# Altium integrated library TI Interface ESD EMI Protection.IntLib: 82 symbols (part 1 of 3)
Pins are listed as number, name and electrical type; pins without a type are passive.

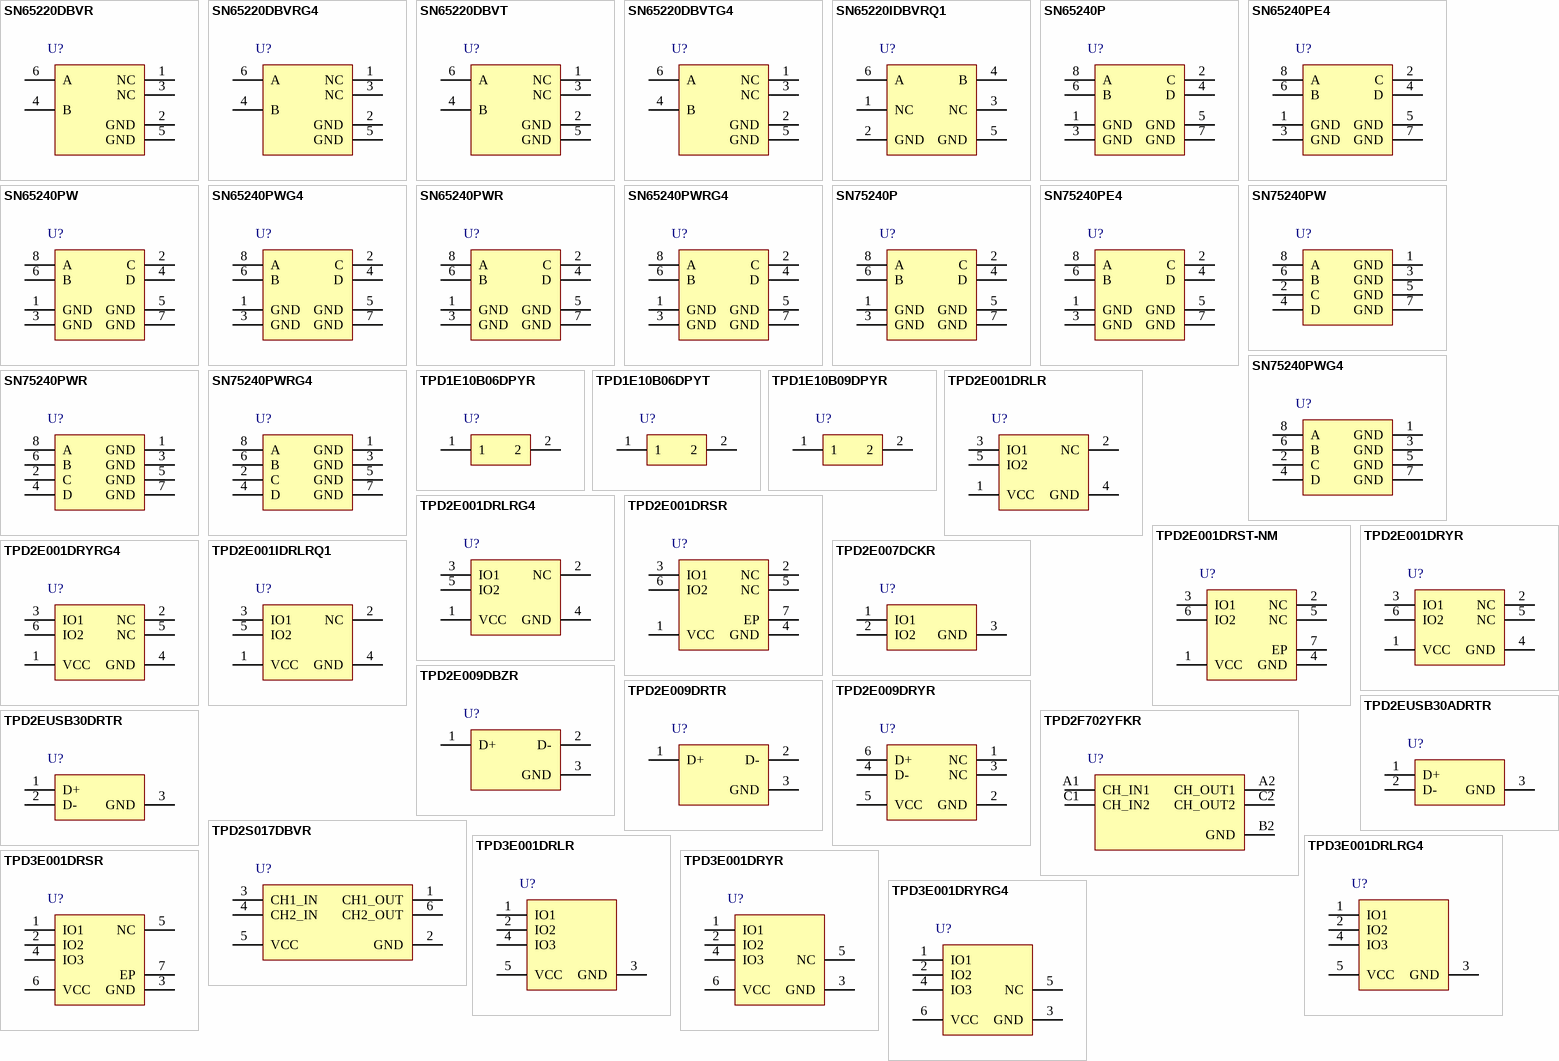
[diagram p0: symbols SN65220DBVR to TPD3E001DRYRG4]

## SN65220DBVR
designator U?
Single Universal Serial Bus Port Transient Suppressor, 2 Channels, -40 to +85 degC, 6-pin SOT-23 (DBV), Green (RoHS & no Sb/Br); Manufacturer: Texas Instruments; PartNumber: SN65220DBVR; Breakdown Voltage(Min)(V): 7; IO Capacitance(Typ)(pF): 35; IO Leakage Current(nA): 1000; SubFamily: ESD Solution; USB Full Speed: TRUE; DatasheetVersion: SLLS266G; PackageVersion: revK, Mar-2006; PackageReference: DBV6; PackageDescription: 6-Pin Plastic Small-Outline Package, 2.9 x 1.6 mm Body, 0.95 mm Pitch, 2.8 mm Lead Span; Supplier 1: Digi-Key; Supplier Part Number 1: 296-9694-2-ND; Supplier 2: Digi-Key; Supplier Part Number 2: 296-9694-1-ND; Supplier 3: Digi-Key; Supplier Part Number 3: 296-9694-6-ND; Supplier 4: Farnell; Supplier Part Number 4: 1470328RL; Supplier 5: Farnell; Supplier Part Number 5: 1470328; Supplier 6: Newark; Supplier Part Number 6: 75C7863; Supplier 7: Mouser; Supplier Part Number 7: 595-SN65220DBVR; Eco-Plan: Green (RoHS & no Sb/Br); Mounting Technology: Surface Mount; Code_JEDEC: MO-178-AB*; ComponentLink1Description: Datasheet; ComponentLink1URL: http://www.ti.com/general/docs/lit/getliterature.tsp?genericPartNumber=SN65220&fileType=pdf; ComponentLink2Description: URL Link1; ComponentLink2URL: SamplesURL:http://www.ti.com/product/sn65220#samples
footprint DBV6_N (SOT23, 6-Leads, Body 2.9x1.6mm, Pitch 0.95mm, Lead Span 2.8mm, IPC Medium Density)
footprint DBV6_L (SOT23, 6-Leads, Body 2.9x1.6mm, Pitch 0.95mm, Lead Span 2.8mm, IPC High Density)
footprint DBV6_M (SOT23, 6-Leads, Body 2.9x1.6mm, Pitch 0.95mm, Lead Span 2.8mm, IPC Low Density)
pins: 1 NC, 2 GND (power), 3 NC, 4 B, 5 GND (power), 6 A

## SN65220DBVRG4
designator U?
Single Universal Serial Bus Port Transient Suppressor, 2 Channels, -40 to +85 degC, 6-pin SOT-23 (DBV), Green (RoHS & no Sb/Br); Manufacturer: Texas Instruments; PartNumber: SN65220DBVRG4; Breakdown Voltage(Min)(V): 7; IO Capacitance(Typ)(pF): 35; IO Leakage Current(nA): 1000; SubFamily: ESD Solution; USB Full Speed: TRUE; DatasheetVersion: SLLS266G; PackageVersion: revK, Mar-2006; PackageReference: DBV6; PackageDescription: 6-Pin Plastic Small-Outline Package, 2.9 x 1.6 mm Body, 0.95 mm Pitch, 2.8 mm Lead Span; Supplier 1: Digi-Key; Supplier Part Number 1: SN65220DBVRG4-ND; Supplier 2: Newark; Supplier Part Number 2: 24K4846; Supplier 3: Mouser; Supplier Part Number 3: 595-SN65220DBVRG4; Eco-Plan: Green (RoHS & no Sb/Br); Mounting Technology: Surface Mount; Code_JEDEC: MO-178-AB*; ComponentLink1Description: Datasheet; ComponentLink1URL: http://www.ti.com/general/docs/lit/getliterature.tsp?genericPartNumber=SN65220&fileType=pdf; ComponentLink2Description: URL Link1; ComponentLink2URL: SamplesURL:http://www.ti.com/product/sn65220#samples
footprint DBV6_N (SOT23, 6-Leads, Body 2.9x1.6mm, Pitch 0.95mm, Lead Span 2.8mm, IPC Medium Density)
footprint DBV6_L (SOT23, 6-Leads, Body 2.9x1.6mm, Pitch 0.95mm, Lead Span 2.8mm, IPC High Density)
footprint DBV6_M (SOT23, 6-Leads, Body 2.9x1.6mm, Pitch 0.95mm, Lead Span 2.8mm, IPC Low Density)
pins: 1 NC, 2 GND (power), 3 NC, 4 B, 5 GND (power), 6 A

## SN65220DBVT
designator U?
Single Universal Serial Bus Port Transient Suppressor, 2 Channels, -40 to +85 degC, 6-pin SOT-23 (DBV), Green (RoHS & no Sb/Br); Manufacturer: Texas Instruments; PartNumber: SN65220DBVT; Breakdown Voltage(Min)(V): 7; IO Capacitance(Typ)(pF): 35; IO Leakage Current(nA): 1000; SubFamily: ESD Solution; USB Full Speed: TRUE; DatasheetVersion: SLLS266G; PackageVersion: revK, Mar-2006; PackageReference: DBV6; PackageDescription: 6-Pin Plastic Small-Outline Package, 2.9 x 1.6 mm Body, 0.95 mm Pitch, 2.8 mm Lead Span; Supplier 1: Digi-Key; Supplier Part Number 1: 296-2341-2-ND; Supplier 2: Digi-Key; Supplier Part Number 2: 296-2341-1-ND; Supplier 3: Digi-Key; Supplier Part Number 3: 296-2341-6-ND; Supplier 4: Farnell; Supplier Part Number 4: 8451990; Supplier 5: Farnell; Supplier Part Number 5: 8451990RL; Supplier 6: Newark; Supplier Part Number 6: 35K0746; Supplier 7: Mouser; Supplier Part Number 7: 595-SN65220DBVT; Eco-Plan: Green (RoHS & no Sb/Br); Mounting Technology: Surface Mount; Code_JEDEC: MO-178-AB*; ComponentLink1Description: Datasheet; ComponentLink1URL: http://www.ti.com/general/docs/lit/getliterature.tsp?genericPartNumber=SN65220&fileType=pdf; ComponentLink2Description: URL Link1; ComponentLink2URL: SamplesURL:http://www.ti.com/product/sn65220#samples
footprint DBV6_N (SOT23, 6-Leads, Body 2.9x1.6mm, Pitch 0.95mm, Lead Span 2.8mm, IPC Medium Density)
footprint DBV6_L (SOT23, 6-Leads, Body 2.9x1.6mm, Pitch 0.95mm, Lead Span 2.8mm, IPC High Density)
footprint DBV6_M (SOT23, 6-Leads, Body 2.9x1.6mm, Pitch 0.95mm, Lead Span 2.8mm, IPC Low Density)
pins: 1 NC, 2 GND (power), 3 NC, 4 B, 5 GND (power), 6 A

## SN65220DBVTG4
designator U?
Single Universal Serial Bus Port Transient Suppressor, 2 Channels, -40 to +85 degC, 6-pin SOT-23 (DBV), Green (RoHS & no Sb/Br); Manufacturer: Texas Instruments; PartNumber: SN65220DBVTG4; Breakdown Voltage(Min)(V): 7; IO Capacitance(Typ)(pF): 35; IO Leakage Current(nA): 1000; Number of Channels: 2; SubFamily: ESD Solution; USB Full Speed: TRUE; DatasheetVersion: SLLS266G; PackageVersion: revK, Mar-2006; PackageReference: DBV6; PackageDescription: 6-Pin Plastic Small-Outline Package, 2.9 x 1.6 mm Body, 0.95 mm Pitch, 2.8 mm Lead Span; Supplier 1: Digi-Key; Supplier Part Number 1: SN65220DBVTG4-ND; Supplier 2: Newark; Supplier Part Number 2: 24K4847; Supplier 3: Mouser; Supplier Part Number 3: 595-SN65220DBVTG4; Eco-Plan: Green (RoHS & no Sb/Br); Mounting Technology: Surface Mount; Code_JEDEC: MO-178-AB*; ComponentLink1Description: Datasheet; ComponentLink1URL: http://www.ti.com/general/docs/lit/getliterature.tsp?genericPartNumber=SN65220&fileType=pdf; ComponentLink2Description: URL Link1; ComponentLink2URL: SamplesURL:http://www.ti.com/product/sn65220#samples
footprint DBV6_N (SOT23, 6-Leads, Body 2.9x1.6mm, Pitch 0.95mm, Lead Span 2.8mm, IPC Medium Density)
footprint DBV6_L (SOT23, 6-Leads, Body 2.9x1.6mm, Pitch 0.95mm, Lead Span 2.8mm, IPC High Density)
footprint DBV6_M (SOT23, 6-Leads, Body 2.9x1.6mm, Pitch 0.95mm, Lead Span 2.8mm, IPC Low Density)
pins: 1 NC, 2 GND (power), 3 NC, 4 B, 5 GND (power), 6 A

## SN65220IDBVRQ1
designator U?
Automotive Catalog Single USB Port Transient Suppressor, 2 Channels, -40 to +85 degC, 6-pin SOT-23 (DBV), Green (RoHS & no Sb/Br); Manufacturer: Texas Instruments; PartNumber: SN65220IDBVRQ1; Breakdown Voltage(Min)(V): 7; IO Capacitance(Typ)(pF): 35; SubFamily: ESD Solution; USB Full Speed: TRUE; DatasheetVersion: SGLS297A; PackageVersion: revK, Mar-2006; PackageReference: DBV6; PackageDescription: 6-Pin Plastic Small-Outline Package, 2.9 x 1.6 mm Body, 0.95 mm Pitch, 2.8 mm Lead Span; Supplier 1: Digi-Key; Supplier Part Number 1: SN65220IDBVRQ1-ND; Supplier 2: Newark; Supplier Part Number 2: 24K4848; Supplier 3: Mouser; Supplier Part Number 3: 595-SN65220IDBVRQ1; Eco-Plan: Green (RoHS & no Sb/Br); Mounting Technology: Surface Mount; Code_JEDEC: MO-178-AB*; ComponentLink1Description: Datasheet; ComponentLink1URL: http://www.ti.com/general/docs/lit/getliterature.tsp?genericPartNumber=SN65220-Q1&fileType=pdf; ComponentLink2Description: URL Link1; ComponentLink2URL: SamplesURL:http://www.ti.com/product/sn65220-q1#samples
footprint DBV6_N (SOT23, 6-Leads, Body 2.9x1.6mm, Pitch 0.95mm, Lead Span 2.8mm, IPC Medium Density)
footprint DBV6_L (SOT23, 6-Leads, Body 2.9x1.6mm, Pitch 0.95mm, Lead Span 2.8mm, IPC High Density)
footprint DBV6_M (SOT23, 6-Leads, Body 2.9x1.6mm, Pitch 0.95mm, Lead Span 2.8mm, IPC Low Density)
pins: 1 NC, 2 GND (power), 3 NC, 4 B, 5 GND (power), 6 A

## SN65240P
designator U?
Dual Universal Serial Bus Port Transient Suppressor, 4 Channels, -40 to +85 degC, 8-pin PDIP (P), Pb-Free (RoHS); Manufacturer: Texas Instruments; PartNumber: SN65240P; Breakdown Voltage(Min)(V): 7; IO Capacitance(Typ)(pF): 35; IO Leakage Current(nA): 1000; SubFamily: ESD Solution; USB Full Speed: TRUE; DatasheetVersion: SLLS266G; PackageVersion: revE, Apr-2010; PackageReference: P8; PackageDescription: 8-Pin Plastic Dual-In-Line Package, Row Spacing 7.62 mm, Pitch 2.54 mm; Supplier 1: Digi-Key; Supplier Part Number 1: 296-9695-5-ND; Supplier 2: Farnell; Supplier Part Number 2: 8452008; Supplier 3: Newark; Supplier Part Number 3: 75C7865; Supplier 4: Mouser; Supplier Part Number 4: 595-SN65240P; Eco-Plan: Pb-Free (RoHS); Mounting Technology: Through Hole; Code_JEDEC: MS-001-BA; ComponentLink1Description: Datasheet; ComponentLink1URL: http://www.ti.com/general/docs/lit/getliterature.tsp?genericPartNumber=SN65240&fileType=pdf; ComponentLink2Description: URL Link1; ComponentLink2URL: SamplesURL:http://www.ti.com/product/sn65240#samples
footprint P8 (DIP, 8-Leads, Row Spacing 7.62mm, Pitch 2.54mm, Body 9.6x6.4mm)
pins: 1 GND (power), 2 C, 3 GND (power), 4 D, 5 GND (power), 6 B, 7 GND (power), 8 A

## SN65240PE4
designator U?
Dual Universal Serial Bus Port Transient Suppressor, 4 Channels, -40 to +85 degC, 8-pin PDIP (P), Pb-Free (RoHS); Manufacturer: Texas Instruments; PartNumber: SN65240PE4; Breakdown Voltage(Min)(V): 7; IO Capacitance(Typ)(pF): 35; IO Leakage Current(nA): 1000; SubFamily: ESD Solution; USB Full Speed: TRUE; DatasheetVersion: SLLS266G; PackageVersion: revE, Apr-2010; PackageReference: P8; PackageDescription: 8-Pin Plastic Dual-In-Line Package, Row Spacing 7.62 mm, Pitch 2.54 mm; Supplier 1: Digi-Key; Supplier Part Number 1: SN65240PE4-ND; Supplier 2: Newark; Supplier Part Number 2: 24K4849; Supplier 3: Mouser; Supplier Part Number 3: 595-SN65240PE4; Eco-Plan: Pb-Free (RoHS); Mounting Technology: Through Hole; Code_JEDEC: MS-001-BA; ComponentLink1Description: Datasheet; ComponentLink1URL: http://www.ti.com/general/docs/lit/getliterature.tsp?genericPartNumber=SN65240&fileType=pdf; ComponentLink2Description: URL Link1; ComponentLink2URL: SamplesURL:http://www.ti.com/product/sn65240#samples
footprint P8 (DIP, 8-Leads, Row Spacing 7.62mm, Pitch 2.54mm, Body 9.6x6.4mm)
pins: 1 GND (power), 2 C, 3 GND (power), 4 D, 5 GND (power), 6 B, 7 GND (power), 8 A

## SN65240PW
designator U?
Universal Serial Bus Port Transient Suppressor, 4 Channels, -40 to +85 degC, 8-pin TSSOP (PW), Green (RoHS & no Sb/Br); Manufacturer: Texas Instruments; PartNumber: SN65240PW; Breakdown Voltage(Min)(V): 7; Eco-Plan: Pb-Free (RoHS); IO Capacitance(Typ)(pF): 35; IO Leakage Current(nA): 1000; SubFamily: ESD Solution; USB Full Speed: TRUE; DatasheetVersion: SLLS266G; PackageVersion: revG, Feb-2011; PackageReference: PW8; PackageDescription: 8-Pin Plastic Thin Small Outline Package 3 x 4.4 mm Body ,0.65 mm Pitch; Supplier 1: Digi-Key; Supplier Part Number 1: 296-9696-5-ND; Supplier 2: Newark; Supplier Part Number 2: 74K3951; Supplier 3: Mouser; Supplier Part Number 3: 595-SN65240PW; Mounting Technology: Surface Mount; Code_JEDEC: MO-153; ComponentLink1Description: Datasheet; ComponentLink1URL: http://www.ti.com/general/docs/lit/getliterature.tsp?genericPartNumber=SN65240&fileType=pdf; ComponentLink2Description: URL Link1; ComponentLink2URL: SamplesURL:http://www.ti.com/product/sn65240#samples
footprint PW8_N (TSOP, 8-Leads, Body 3x4.4mm, Pitch 0.65mm, IPC Medium Density)
footprint PW8_L (TSOP, 8-Leads, Body 3x4.4mm, Pitch 0.65mm, IPC High Density)
footprint PW8_M (TSOP, 8-Leads, Body 3x4.4mm, Pitch 0.65mm, IPC Low Density)
pins: 1 GND (power), 2 C, 3 GND (power), 4 D, 5 GND (power), 6 B, 7 GND (power), 8 A

## SN65240PWG4
designator U?
Universal Serial Bus Port Transient Suppressor, 4 Channels, -40 to +85 degC, 8-pin TSSOP (PW), Green (RoHS & no Sb/Br); Manufacturer: Texas Instruments; PartNumber: SN65240PWG4; Breakdown Voltage(Min)(V): 7; Eco-Plan: Pb-Free (RoHS); IO Capacitance(Typ)(pF): 35; IO Leakage Current(nA): 1000; SubFamily: ESD Solution; USB Full Speed: TRUE; DatasheetVersion: SLLS266G; PackageVersion: revG, Feb-2011; PackageReference: PW8; PackageDescription: 8-Pin Plastic Thin Small Outline Package 3 x 4.4 mm Body ,0.65 mm Pitch; Supplier 1: Digi-Key; Supplier Part Number 1: SN65240PWG4-ND; Supplier 2: Farnell; Supplier Part Number 2: 1207266; Supplier 3: Newark; Supplier Part Number 3: 24M7564; Supplier 4: Newark; Supplier Part Number 4: 66K4202; Supplier 5: Mouser; Supplier Part Number 5: 595-SN65240PWG4; Mounting Technology: Surface Mount; Code_JEDEC: MO-153; ComponentLink1Description: Datasheet; ComponentLink1URL: http://www.ti.com/general/docs/lit/getliterature.tsp?genericPartNumber=SN65240&fileType=pdf; ComponentLink2Description: URL Link1; ComponentLink2URL: SamplesURL:http://www.ti.com/product/sn65240#samples
footprint PW8_N (TSOP, 8-Leads, Body 3x4.4mm, Pitch 0.65mm, IPC Medium Density)
footprint PW8_L (TSOP, 8-Leads, Body 3x4.4mm, Pitch 0.65mm, IPC High Density)
footprint PW8_M (TSOP, 8-Leads, Body 3x4.4mm, Pitch 0.65mm, IPC Low Density)
pins: 1 GND (power), 2 C, 3 GND (power), 4 D, 5 GND (power), 6 B, 7 GND (power), 8 A

## SN65240PWR
designator U?
Universal Serial Bus Port Transient Suppressor, 4 Channels, -40 to +85 degC, 8-pin TSSOP (PW), Green (RoHS & no Sb/Br); Manufacturer: Texas Instruments; PartNumber: SN65240PWR; Breakdown Voltage(Min)(V): 7; Eco-Plan: Pb-Free (RoHS); IO Capacitance(Typ)(pF): 35; IO Leakage Current(nA): 1000; SubFamily: ESD Solution; USB Full Speed: TRUE; DatasheetVersion: SLLS266G; PackageVersion: revG, Feb-2011; PackageReference: PW8; PackageDescription: 8-Pin Plastic Thin Small Outline Package 3 x 4.4 mm Body ,0.65 mm Pitch; Supplier 1: Digi-Key; Supplier Part Number 1: 296-9696-2-ND; Supplier 2: Digi-Key; Supplier Part Number 2: 296-9696-1-ND; Supplier 3: Digi-Key; Supplier Part Number 3: 296-9696-6-ND; Supplier 4: Newark; Supplier Part Number 4: 75C7867; Supplier 5: Mouser; Supplier Part Number 5: 595-SN65240PWR; Mounting Technology: Surface Mount; Code_JEDEC: MO-153; ComponentLink1Description: Datasheet; ComponentLink1URL: http://www.ti.com/general/docs/lit/getliterature.tsp?genericPartNumber=SN65240&fileType=pdf; ComponentLink2Description: URL Link1; ComponentLink2URL: SamplesURL:http://www.ti.com/product/sn65240#samples
footprint PW8_N (TSOP, 8-Leads, Body 3x4.4mm, Pitch 0.65mm, IPC Medium Density)
footprint PW8_L (TSOP, 8-Leads, Body 3x4.4mm, Pitch 0.65mm, IPC High Density)
footprint PW8_M (TSOP, 8-Leads, Body 3x4.4mm, Pitch 0.65mm, IPC Low Density)
pins: 1 GND (power), 2 C, 3 GND (power), 4 D, 5 GND (power), 6 B, 7 GND (power), 8 A

## SN65240PWRG4
designator U?
Universal Serial Bus Port Transient Suppressor, 4 Channels, -40 to +85 degC, 8-pin TSSOP (PW), Green (RoHS & no Sb/Br); Manufacturer: Texas Instruments; PartNumber: SN65240PWRG4; Breakdown Voltage(Min)(V): 7; Eco-Plan: Pb-Free (RoHS); IO Capacitance(Typ)(pF): 35; IO Leakage Current(nA): 1000; SubFamily: ESD Solution; USB Full Speed: TRUE; DatasheetVersion: SLLS266G; PackageVersion: revG, Feb-2011; PackageReference: PW8; PackageDescription: 8-Pin Plastic Thin Small Outline Package 3 x 4.4 mm Body ,0.65 mm Pitch; Supplier 1: Digi-Key; Supplier Part Number 1: SN65240PWRG4-ND; Supplier 2: Newark; Supplier Part Number 2: 58K6509; Supplier 3: Mouser; Supplier Part Number 3: 595-SN65240PWRG4; Mounting Technology: Surface Mount; Code_JEDEC: MO-153; ComponentLink1Description: Datasheet; ComponentLink1URL: http://www.ti.com/general/docs/lit/getliterature.tsp?genericPartNumber=SN65240&fileType=pdf; ComponentLink2Description: URL Link1; ComponentLink2URL: SamplesURL:http://www.ti.com/product/sn65240#samples
footprint PW8_N (TSOP, 8-Leads, Body 3x4.4mm, Pitch 0.65mm, IPC Medium Density)
footprint PW8_L (TSOP, 8-Leads, Body 3x4.4mm, Pitch 0.65mm, IPC High Density)
footprint PW8_M (TSOP, 8-Leads, Body 3x4.4mm, Pitch 0.65mm, IPC Low Density)
pins: 1 GND (power), 2 C, 3 GND (power), 4 D, 5 GND (power), 6 B, 7 GND (power), 8 A

## SN75240P
designator U?
USB Port Transient Suppressor, 4 Channels, 0 to +70 degC, 8-pin PDIP (P), Pb-Free (RoHS); Manufacturer: Texas Instruments; PartNumber: SN75240P; Breakdown Voltage(Min)(V): 7; IO Capacitance(Typ)(pF): 35; IO Leakage Current(nA): 1000; SubFamily: ESD Solution; USB Full Speed: TRUE; DatasheetVersion: SLLS266G; PackageVersion: revE, Apr-2010; PackageReference: P8; PackageDescription: 8-Pin Plastic Dual-In-Line Package, Row Spacing 7.62 mm, Pitch 2.54 mm; Supplier 1: Digi-Key; Supplier Part Number 1: 296-6596-5-ND; Supplier 2: Farnell; Supplier Part Number 2: 1102932; Supplier 3: Newark; Supplier Part Number 3: 76C5382; Supplier 4: Mouser; Supplier Part Number 4: 595-SN75240P; Eco-Plan: Pb-Free (RoHS); Mounting Technology: Through Hole; Code_JEDEC: MS-001-BA; ComponentLink1Description: Datasheet; ComponentLink1URL: http://www.ti.com/general/docs/lit/getliterature.tsp?genericPartNumber=SN75240&fileType=pdf; ComponentLink2Description: URL Link1; ComponentLink2URL: SamplesURL:http://www.ti.com/product/sn75240#samples
footprint P8 (DIP, 8-Leads, Row Spacing 7.62mm, Pitch 2.54mm, Body 9.6x6.4mm)
pins: 1 GND (power), 2 C, 3 GND (power), 4 D, 5 GND (power), 6 B, 7 GND (power), 8 A

## SN75240PE4
designator U?
Dual USB Port Transient Suppressor, 4 Channels, 0 to +70 degC, 8-pin PDIP (P), Pb-Free (RoHS); Manufacturer: Texas Instruments; PartNumber: SN75240PE4; Breakdown Voltage(Min)(V): 7; IO Capacitance(Typ)(pF): 35; IO Leakage Current(nA): 1000; SubFamily: ESD Solution; USB Full Speed: TRUE; DatasheetVersion: SLLS266G; PackageVersion: revE, Apr-2010; PackageReference: P8; PackageDescription: 8-Pin Plastic Dual-In-Line Package, Row Spacing 7.62 mm, Pitch 2.54 mm; Supplier 1: Digi-Key; Supplier Part Number 1: SN75240PE4-ND; Supplier 2: Newark; Supplier Part Number 2: 24K4906; Supplier 3: Mouser; Supplier Part Number 3: 595-SN75240PE4; Eco-Plan: Pb-Free (RoHS); Mounting Technology: Through Hole; Code_JEDEC: MS-001-BA; ComponentLink1Description: Datasheet; ComponentLink1URL: http://www.ti.com/general/docs/lit/getliterature.tsp?genericPartNumber=SN75240&fileType=pdf; ComponentLink2Description: URL Link1; ComponentLink2URL: SamplesURL:http://www.ti.com/product/sn75240#samples
footprint P8 (DIP, 8-Leads, Row Spacing 7.62mm, Pitch 2.54mm, Body 9.6x6.4mm)
pins: 1 GND (power), 2 C, 3 GND (power), 4 D, 5 GND (power), 6 B, 7 GND (power), 8 A

## SN75240PW
designator U?
USB Port Transient Suppressor, 4 Channels, 0 to +70 degC, 8-pin TSSOP (PW), Green (RoHS & no Sb/Br); Manufacturer: Texas Instruments; PartNumber: SN75240PW; Breakdown Voltage(Min)(V): 7; Eco-Plan: Pb-Free (RoHS); IO Capacitance(Typ)(pF): 35; IO Leakage Current(nA): 1000; SubFamily: ESD Solution; USB Full Speed: TRUE; DatasheetVersion: SLLS266G; PackageVersion: revG, Feb-2011; PackageReference: PW8; PackageDescription: 8-Pin Plastic Thin Small Outline Package 3 x 4.4 mm Body ,0.65 mm Pitch; Supplier 1: Digi-Key; Supplier Part Number 1: 296-26650-5-ND; Supplier 2: Newark; Supplier Part Number 2: 74K3957; Supplier 3: Mouser; Supplier Part Number 3: 595-SN75240PW; Mounting Technology: Surface Mount; Code_JEDEC: MO-153; ComponentLink1Description: Datasheet; ComponentLink1URL: http://www.ti.com/general/docs/lit/getliterature.tsp?genericPartNumber=SN75240&fileType=pdf; ComponentLink2Description: URL Link1; ComponentLink2URL: SamplesURL:http://www.ti.com/product/sn75240#samples
footprint PW8_N (TSOP, 8-Leads, Body 3x4.4mm, Pitch 0.65mm, IPC Medium Density)
footprint PW8_L (TSOP, 8-Leads, Body 3x4.4mm, Pitch 0.65mm, IPC High Density)
footprint PW8_M (TSOP, 8-Leads, Body 3x4.4mm, Pitch 0.65mm, IPC Low Density)
pins: 1 GND (power), 2 C, 3 GND (power), 4 D, 5 GND (power), 6 B, 7 GND (power), 8 A

## SN75240PWG4
designator U?
USB Port Transient Suppressor, 4 Channels, 0 to +70 degC, 8-pin TSSOP (PW), Green (RoHS & no Sb/Br); Manufacturer: Texas Instruments; PartNumber: SN75240PWG4; Breakdown Voltage(Min)(V): 7; Eco-Plan: Pb-Free (RoHS); IO Capacitance(Typ)(pF): 35; IO Leakage Current(nA): 1000; SubFamily: ESD Solution; USB Full Speed: TRUE; DatasheetVersion: SLLS266G; PackageVersion: revG, Feb-2011; PackageReference: PW8; PackageDescription: 8-Pin Plastic Thin Small Outline Package 3 x 4.4 mm Body ,0.65 mm Pitch; Supplier 1: Digi-Key; Supplier Part Number 1: SN75240PWG4-ND; Supplier 2: Farnell; Supplier Part Number 2: 1207275; Supplier 3: Newark; Supplier Part Number 3: 24M7629; Supplier 4: Newark; Supplier Part Number 4: 57K1210; Supplier 5: Mouser; Supplier Part Number 5: 595-SN75240PWG4; Mounting Technology: Surface Mount; Code_JEDEC: MO-153; ComponentLink1Description: Datasheet; ComponentLink1URL: http://www.ti.com/general/docs/lit/getliterature.tsp?genericPartNumber=SN75240&fileType=pdf; ComponentLink2Description: URL Link1; ComponentLink2URL: SamplesURL:http://www.ti.com/product/sn75240#samples
footprint PW8_N (TSOP, 8-Leads, Body 3x4.4mm, Pitch 0.65mm, IPC Medium Density)
footprint PW8_L (TSOP, 8-Leads, Body 3x4.4mm, Pitch 0.65mm, IPC High Density)
footprint PW8_M (TSOP, 8-Leads, Body 3x4.4mm, Pitch 0.65mm, IPC Low Density)
pins: 1 GND (power), 2 C, 3 GND (power), 4 D, 5 GND (power), 6 B, 7 GND (power), 8 A

## SN75240PWR
designator U?
USB Port Transient Suppressor, 4 Channels, 0 to +70 degC, 8-pin TSSOP (PW), Green (RoHS & no Sb/Br); Manufacturer: Texas Instruments; PartNumber: SN75240PWR; Breakdown Voltage(Min)(V): 7; Eco-Plan: Pb-Free (RoHS); IO Capacitance(Typ)(pF): 35; IO Leakage Current(nA): 1000; SubFamily: ESD Solution; USB Full Speed: TRUE; DatasheetVersion: SLLS266G; PackageVersion: revG, Feb-2011; PackageReference: PW8; PackageDescription: 8-Pin Plastic Thin Small Outline Package 3 x 4.4 mm Body ,0.65 mm Pitch; Supplier 1: Digi-Key; Supplier Part Number 1: 296-6596-2-ND; Supplier 2: Digi-Key; Supplier Part Number 2: 296-6596-1-ND; Supplier 3: Digi-Key; Supplier Part Number 3: 296-6596-6-ND; Supplier 4: Farnell; Supplier Part Number 4: 1100941; Supplier 5: Farnell; Supplier Part Number 5: 1100941RL; Supplier 6: Newark; Supplier Part Number 6: 24C4633; Supplier 7: Mouser; Supplier Part Number 7: 595-SN75240PWR; Mounting Technology: Surface Mount; Code_JEDEC: MO-153; ComponentLink1Description: Datasheet; ComponentLink1URL: http://www.ti.com/general/docs/lit/getliterature.tsp?genericPartNumber=SN75240&fileType=pdf; ComponentLink2Description: URL Link1; ComponentLink2URL: SamplesURL:http://www.ti.com/product/sn75240#samples
footprint PW8_N (TSOP, 8-Leads, Body 3x4.4mm, Pitch 0.65mm, IPC Medium Density)
footprint PW8_L (TSOP, 8-Leads, Body 3x4.4mm, Pitch 0.65mm, IPC High Density)
footprint PW8_M (TSOP, 8-Leads, Body 3x4.4mm, Pitch 0.65mm, IPC Low Density)
pins: 1 GND (power), 2 C, 3 GND (power), 4 D, 5 GND (power), 6 B, 7 GND (power), 8 A

## SN75240PWRG4
designator U?
USB Port Transient Suppressor, 4 Channels, 0 to +70 degC, 8-pin TSSOP (PW), Green (RoHS & no Sb/Br); Manufacturer: Texas Instruments; PartNumber: SN75240PWRG4; Breakdown Voltage(Min)(V): 7; Eco-Plan: Pb-Free (RoHS); IO Capacitance(Typ)(pF): 35; IO Leakage Current(nA): 1000; SubFamily: ESD Solution; USB Full Speed: TRUE; DatasheetVersion: SLLS266G; PackageVersion: revG, Feb-2011; PackageReference: PW8; PackageDescription: 8-Pin Plastic Thin Small Outline Package 3 x 4.4 mm Body ,0.65 mm Pitch; Supplier 1: Digi-Key; Supplier Part Number 1: SN75240PWRG4-ND; Supplier 2: Newark; Supplier Part Number 2: 28K5619; Supplier 3: Mouser; Supplier Part Number 3: 595-SN75240PWRG4; Mounting Technology: Surface Mount; Code_JEDEC: MO-153; ComponentLink1Description: Datasheet; ComponentLink1URL: http://www.ti.com/general/docs/lit/getliterature.tsp?genericPartNumber=SN75240&fileType=pdf; ComponentLink2Description: URL Link1; ComponentLink2URL: SamplesURL:http://www.ti.com/product/sn75240#samples
footprint PW8_N (TSOP, 8-Leads, Body 3x4.4mm, Pitch 0.65mm, IPC Medium Density)
footprint PW8_L (TSOP, 8-Leads, Body 3x4.4mm, Pitch 0.65mm, IPC High Density)
footprint PW8_M (TSOP, 8-Leads, Body 3x4.4mm, Pitch 0.65mm, IPC Low Density)
pins: 1 GND (power), 2 C, 3 GND (power), 4 D, 5 GND (power), 6 B, 7 GND (power), 8 A

## TPD1E10B06DPYR
designator U?
ESD in 0402 Package with 10 pF Capacitance and 6 V Breakdown, 1 Channel, -40 to +125 degC, 2-pin X2SON (DPY), Green (RoHS & no Sb/Br); Manufacturer: Texas Instruments; PartNumber: TPD1E10B06DPYR; Breakdown Voltage(Min)(V): 6; Eco-Plan: TBD; IEC 61000-4-2 Air-Gap(+/- kV): 30; IO Capacitance(Typ)(pF): 10; SubFamily: ESD Solution; DatasheetVersion: SLLSEB1; PackageVersion: revA, Apr-2010; PackageReference: DPY2; PackageDescription: 2-Pin Plastic Small Outline No-Lead 1.0 x 0.6 x 0.4 mm Body; Supplier 1: Digi-Key; Supplier Part Number 1: 296-30406-2-ND; Supplier 2: Digi-Key; Supplier Part Number 2: 296-30406-1-ND; Supplier 3: Digi-Key; Supplier Part Number 3: 296-30406-6-ND; Supplier 4: Newark; Supplier Part Number 4: 94T1842; Supplier 5: Mouser; Supplier Part Number 5: 595-TPD1E10B06DPYR; IEC 61000-4-2 Contact(+/- kV): 30; IO Leakage Current(nA): 10; Mounting Technology: Surface Mount; ComponentLink1Description: Datasheet; ComponentLink1URL: http://www.ti.com/general/docs/lit/getliterature.tsp?genericPartNumber=TPD1E10B06&fileType=pdf; ComponentLink2Description: URL Link1; ComponentLink2URL: SamplesURL:http://www.ti.com/product/tpd1e10b06#samples
footprint DPY2_N (DFN, 2-Leads, Body 1.0x0.6x0.4mm, IPC Medium Density)
footprint DPY2_L (DFN, 2-Leads, Body 1.0x0.6x0.4mm, IPC High Density)
footprint DPY2_M (DFN, 2-Leads, Body 1.0x0.6x0.4mm, IPC Low Density)
pins: 1, 2

## TPD1E10B06DPYT
designator U?
ESD Protection in 0402 Package with 10 pF Capacitance and 6 V Breakdown, 1 Channel, -40 to +125 degC, 2-pin X2SON (DPY); Manufacturer: Texas Instruments; PartNumber: TPD1E10B06DPYT; Breakdown Voltage(Min)(V): 6; Eco-Plan: TBD; IEC 61000-4-2 Air-Gap(+/- kV): 30; IO Capacitance(Typ)(pF): 10; SubFamily: ESD Solution; DatasheetVersion: SLLSEB1; PackageVersion: revA, Apr-2010; PackageReference: DPY2; PackageDescription: 2-Pin Plastic Small Outline No-Lead 1.0 x 0.6 x 0.4 mm Body; Supplier 1: Mouser; Supplier Part Number 1: N/A; IEC 61000-4-2 Contact(+/- kV): 30; IO Leakage Current(nA): 10; Mounting Technology: Surface Mount; ComponentLink1Description: Datasheet; ComponentLink1URL: http://www.ti.com/general/docs/lit/getliterature.tsp?genericPartNumber=TPD1E10B06&fileType=pdf; ComponentLink2Description: URL Link1; ComponentLink2URL: SamplesURL:http://www.ti.com/product/tpd1e10b06#samples
footprint DPY2_N (DFN, 2-Leads, Body 1.0x0.6x0.4mm, IPC Medium Density)
footprint DPY2_L (DFN, 2-Leads, Body 1.0x0.6x0.4mm, IPC High Density)
footprint DPY2_M (DFN, 2-Leads, Body 1.0x0.6x0.4mm, IPC Low Density)
pins: 1, 2

## TPD1E10B09DPYR
designator U?
ESD Protection in 0402 Package with 10 pF Capacitance and 9 V Breakdown, 1 Channel, -40 to +125 degC, 2-pin X2SON (DPY), Green (RoHS & no Sb/Br); Manufacturer: Texas Instruments; PartNumber: TPD1E10B09DPYR; Breakdown Voltage(Min)(V): 9; Eco-Plan: TBD; IEC 61000-4-2 Air-Gap(+/- kV): 30; IO Capacitance(Typ)(pF): 10; SubFamily: ESD Solution; DatasheetVersion: SLLSEB0; PackageVersion: revA, Apr-2010; PackageReference: DPY2; PackageDescription: 2-Pin Plastic Small Outline No-Lead 1.0 x 0.6 x 0.4 mm Body; Supplier 1: Digi-Key; Supplier Part Number 1: 296-30405-2-ND; Supplier 2: Digi-Key; Supplier Part Number 2: 296-30405-1-ND; Supplier 3: Digi-Key; Supplier Part Number 3: 296-30405-6-ND; Supplier 4: Newark; Supplier Part Number 4: 94T1843; Supplier 5: Mouser; Supplier Part Number 5: 595-TPD1E10B09DPYR; IEC 61000-4-2 Contact(+/- kV): 30; IO Leakage Current(nA): 10; Mounting Technology: Surface Mount; ComponentLink1Description: Datasheet; ComponentLink1URL: http://www.ti.com/general/docs/lit/getliterature.tsp?genericPartNumber=TPD1E10B09&fileType=pdf; ComponentLink2Description: URL Link1; ComponentLink2URL: SamplesURL:http://www.ti.com/product/tpd1e10b09#samples
footprint DPY2_N (DFN, 2-Leads, Body 1.0x0.6x0.4mm, IPC Medium Density)
footprint DPY2_L (DFN, 2-Leads, Body 1.0x0.6x0.4mm, IPC High Density)
footprint DPY2_M (DFN, 2-Leads, Body 1.0x0.6x0.4mm, IPC Low Density)
pins: 1, 2

## TPD2E001DRLR
designator U?
Low-Capacitance + / - 15 kV ESD-Protection Array for High-Speed Data Interfaces, 2 Channels, -40 to +85 degC, 5-pin SOT (DRL), Green (RoHS & no Sb/Br); Manufacturer: Texas Instruments; PartNumber: TPD2E001DRLR; Breakdown Voltage(Min)(V): 11; IEC 61000-4-2 Air-Gap(+/- kV): 15; IEC 61000-4-2 Contact(+/- kV): 8; IO Capacitance(Typ)(pF): 1.5; IO Leakage Current(nA): 1; SubFamily: ESD Solution; USB High Speed: TRUE; DatasheetVersion: SLLS684F; PackageVersion: revD, Aug-2007; PackageReference: DRL5; PackageDescription: 5-Pin Plastic Small Outline, Flat Lead 0.5 mm Pitch; Supplier 1: Digi-Key; Supplier Part Number 1: 296-21883-2-ND; Supplier 2: Digi-Key; Supplier Part Number 2: 296-21883-1-ND; Supplier 3: Digi-Key; Supplier Part Number 3: 296-21883-6-ND; Supplier 4: Farnell; Supplier Part Number 4: 1412055; Supplier 5: Newark; Supplier Part Number 5: 41M5840; Supplier 6: Mouser; Supplier Part Number 6: 595-TPD2E001DRLR; Eco-Plan: Green (RoHS & no Sb/Br); Mounting Technology: Surface Mount; ComponentLink1Description: Datasheet; ComponentLink1URL: http://www.ti.com/general/docs/lit/getliterature.tsp?genericPartNumber=TPD2E001&fileType=pdf; ComponentLink2Description: URL Link1; ComponentLink2URL: SamplesURL:http://www.ti.com/product/tpd2e001#samples
footprint DRL5_V (SOTFL, 5-Flat Leads, Body 1.2x1.6x0.6mm, Pitch 0.5mm, TI Recommended)
footprint DRL5_N (SOTFL, 5-Flat Leads, Body 1.2x1.6x0.6mm, Pitch 0.5mm, IPC Medium Density)
footprint DRL5_L (SOTFL, 5-Flat Leads, Body 1.2x1.6x0.6mm, Pitch 0.5mm, IPC High Density)
footprint DRL5_M (SOTFL, 5-Flat Leads, Body 1.2x1.6x0.6mm, Pitch 0.5mm, IPC Low Density)
pins: 1 VCC (power) "Power-supply input. Bypass VCC to GND with a 0.1-uF ceramic capacitor.", 2 NC "No connection. Not internally connected.", 3 IO1 "ESD-protected channel", 4 GND (power) "Ground", 5 IO2 "ESD-protected channel"

## TPD2E001DRLRG4
designator U?
Low-Capacitance + / - 15 kV ESD-Protection Array for High-Speed Data Interfaces, 2 Channels, -40 to +85 degC, 5-pin SOT (DRL), Green (RoHS & no Sb/Br); Manufacturer: Texas Instruments; PartNumber: TPD2E001DRLRG4; Breakdown Voltage(Min)(V): 11; IEC 61000-4-2 Air-Gap(+/- kV): 15; IEC 61000-4-2 Contact(+/- kV): 8; IO Capacitance(Typ)(pF): 1.5; IO Leakage Current(nA): 1; SubFamily: ESD Solution; USB High Speed: TRUE; DatasheetVersion: SLLS684F; PackageVersion: revD, Aug-2007; PackageReference: DRL5; PackageDescription: 5-Pin Plastic Small Outline, Flat Lead 0.5 mm Pitch; Supplier 1: Digi-Key; Supplier Part Number 1: TPD2E001DRLRG4-ND; Supplier 2: Newark; Supplier Part Number 2: 46M1085; Supplier 3: Mouser; Supplier Part Number 3: 595-TPD2E001DRLRG4; Eco-Plan: Green (RoHS & no Sb/Br); Mounting Technology: Surface Mount; ComponentLink1Description: Datasheet; ComponentLink1URL: http://www.ti.com/general/docs/lit/getliterature.tsp?genericPartNumber=TPD2E001&fileType=pdf; ComponentLink2Description: URL Link1; ComponentLink2URL: SamplesURL:http://www.ti.com/product/tpd2e001#samples
footprint DRL5_V (SOTFL, 5-Flat Leads, Body 1.2x1.6x0.6mm, Pitch 0.5mm, TI Recommended)
footprint DRL5_N (SOTFL, 5-Flat Leads, Body 1.2x1.6x0.6mm, Pitch 0.5mm, IPC Medium Density)
footprint DRL5_L (SOTFL, 5-Flat Leads, Body 1.2x1.6x0.6mm, Pitch 0.5mm, IPC High Density)
footprint DRL5_M (SOTFL, 5-Flat Leads, Body 1.2x1.6x0.6mm, Pitch 0.5mm, IPC Low Density)
pins: 1 VCC (power) "Power-supply input. Bypass VCC to GND with a 0.1-uF ceramic capacitor.", 2 NC "No connection. Not internally connected.", 3 IO1 "ESD-protected channel", 4 GND (power) "Ground", 5 IO2 "ESD-protected channel"

## TPD2E001DRSR
designator U?
Low-Capacitance + / - 15 kV ESD-Protection Array for High-Speed Data Interfaces, 2 Channels, -40 to +85 degC, 6-pin SON (DRS), Green (RoHS & no Sb/Br); Manufacturer: Texas Instruments; PartNumber: TPD2E001DRSR; Breakdown Voltage(Min)(V): 11; IEC 61000-4-2 Air-Gap(+/- kV): 15; IEC 61000-4-2 Contact(+/- kV): 8; IO Capacitance(Typ)(pF): 1.5; IO Leakage Current(nA): 1; SubFamily: ESD Solution; USB High Speed: TRUE; DatasheetVersion: SLLS684F; PackageVersion: revF, Jul-2011; PackageReference: DRS6-1900X1200TP; PackageDescription: 6-Pin Plastic Small Outline No-Lead, 3 x 3 x 0.8 mm Body, 0.95 mm Pitch; Supplier 1: Digi-Key; Supplier Part Number 1: 296-22850-2-ND; Supplier 2: Digi-Key; Supplier Part Number 2: 296-22850-1-ND; Supplier 3: Digi-Key; Supplier Part Number 3: 296-22850-6-ND; Supplier 4: Newark; Supplier Part Number 4: 54M7403; Supplier 5: Mouser; Supplier Part Number 5: 595-TPD2E001DRSR; Eco-Plan: Green (RoHS & no Sb/Br); Mounting Technology: Surface Mount; ComponentLink1Description: Datasheet; ComponentLink1URL: http://www.ti.com/general/docs/lit/getliterature.tsp?genericPartNumber=TPD2E001&fileType=pdf; ComponentLink2Description: URL Link1; ComponentLink2URL: SamplesURL:http://www.ti.com/product/tpd2e001#samples
footprint DRS6-1900X1200TP (SON, 6-Leads, Body 3x3mm, Pitch 0.95mm, Thermal Pad 2x1.3mm, TI Recommended)
pins: 1 VCC (power) "Power-supply input. Bypass VCC to GND with a 0.1-uF ceramic capacitor.", 2 NC "No connection. Not internally connected", 3 IO1 "ESD-protected channel", 4 GND (power) "Ground", 5 NC "No connection. Not internally connected", 6 IO2 "ESD-protected channel", 7 EP (power) "Exposed pad. Connect to GND."

## TPD2E001DRST-NM
designator U?
Low-Capacitance + / - 15 kV ESD-Protection Array for High-Speed Data Interfaces, 2 Channels, -40 to +85 degC, 6-pin SON (DRS), Green (RoHS & no Sb/Br); Manufacturer: Texas Instruments; PartNumber: TPD2E001DRST-NM; Breakdown Voltage(Min)(V): 11; IEC 61000-4-2 Air-Gap(+/- kV): 15; IEC 61000-4-2 Contact(+/- kV): 8; IO Capacitance(Typ)(pF): 1.5; IO Leakage Current(nA): 1; SubFamily: ESD Solution; USB High Speed: TRUE; DatasheetVersion: SLLS684F; PackageVersion: revF, Jul-2011; PackageReference: DRS6-1900X1200TP; PackageDescription: 6-Pin Plastic Small Outline No-Lead, 3 x 3 x 0.8 mm Body, 0.95 mm Pitch; Supplier 1: Digi-Key; Supplier Part Number 1: 296-29887-2-ND; Supplier 2: Digi-Key; Supplier Part Number 2: 296-29887-1-ND; Supplier 3: Digi-Key; Supplier Part Number 3: 296-29887-6-ND; Supplier 4: Newark; Supplier Part Number 4: 74T5468; Supplier 5: Mouser; Supplier Part Number 5: 595-TPD2E001DRST-NM; Eco-Plan: Green (RoHS & no Sb/Br); Mounting Technology: Surface Mount; ComponentLink1Description: Datasheet; ComponentLink1URL: http://www.ti.com/general/docs/lit/getliterature.tsp?genericPartNumber=TPD2E001&fileType=pdf; ComponentLink2Description: URL Link1; ComponentLink2URL: SamplesURL:http://www.ti.com/product/tpd2e001#samples
footprint DRS6-1900X1200TP (SON, 6-Leads, Body 3x3mm, Pitch 0.95mm, Thermal Pad 2x1.3mm, TI Recommended)
pins: 1 VCC (power) "Power-supply input. Bypass VCC to GND with a 0.1-uF ceramic capacitor.", 2 NC "No connection. Not internally connected", 3 IO1 "ESD-protected channel", 4 GND (power) "Ground", 5 NC "No connection. Not internally connected", 6 IO2 "ESD-protected channel", 7 EP (power) "Exposed pad. Connect to GND."

## TPD2E001DRYR
designator U?
Low-Capacitance + / - 15 kV ESD-Protection Array for High-Speed Data Interfaces, 2 Channels, -40 to +85 degC, 6-pin SON (DRY), Green (RoHS & no Sb/Br); Manufacturer: Texas Instruments; PartNumber: TPD2E001DRYR; Breakdown Voltage(Min)(V): 11; IEC 61000-4-2 Air-Gap(+/- kV): 15; IEC 61000-4-2 Contact(+/- kV): 8; IO Capacitance(Typ)(pF): 1.5; IO Leakage Current(nA): 1; SubFamily: ESD Solution; USB High Speed: TRUE; DatasheetVersion: SLLS684F; PackageVersion: revF, Dec-2011; PackageReference: DRY6; PackageDescription: 6-Pin Plastic Small Outline No-Lead, 1 x 1.45 x 0.6 mm Body, 0.5 mm Pitch; Supplier 1: Digi-Key; Supplier Part Number 1: 296-21884-2-ND; Supplier 2: Digi-Key; Supplier Part Number 2: 296-21884-1-ND; Supplier 3: Digi-Key; Supplier Part Number 3: 296-21884-6-ND; Supplier 4: Newark; Supplier Part Number 4: 41M5841; Supplier 5: Mouser; Supplier Part Number 5: 595-TPD2E001DRYR; Eco-Plan: Green (RoHS & no Sb/Br); Mounting Technology: Surface Mount; ComponentLink1Description: Datasheet; ComponentLink1URL: http://www.ti.com/general/docs/lit/getliterature.tsp?genericPartNumber=TPD2E001&fileType=pdf; ComponentLink2Description: URL Link1; ComponentLink2URL: SamplesURL:http://www.ti.com/product/tpd2e001#samples
footprint DRY6 (PSON, 6-Leads, Body 1x1.45mm, Pitch 0.5mm, TI Recommended)
pins: 1 VCC (power) "Power-supply input. Bypass VCC to GND with a 0.1-uF ceramic capacitor.", 2 NC "No connection. Not internally connected.", 3 IO1 "ESD-protected channel", 4 GND (power) "Ground", 5 NC "No connection. Not internally connected.", 6 IO2 "ESD-protected channel"

## TPD2E001DRYRG4
designator U?
Low-Capacitance + / - 15 kV ESD-Protection Array for High-Speed Data Interfaces, 2 Channels, -40 to +85 degC, 6-pin SON (DRY), Green (RoHS & no Sb/Br); Manufacturer: Texas Instruments; PartNumber: TPD2E001DRYRG4; Breakdown Voltage(Min)(V): 11; IEC 61000-4-2 Air-Gap(+/- kV): 15; IEC 61000-4-2 Contact(+/- kV): 8; IO Capacitance(Typ)(pF): 1.5; IO Leakage Current(nA): 1; SubFamily: ESD Solution; USB High Speed: TRUE; DatasheetVersion: SLLS684F; PackageVersion: revF, Dec-2011; PackageReference: DRY6; PackageDescription: 6-Pin Plastic Small Outline No-Lead, 1 x 1.45 x 0.6 mm Body, 0.5 mm Pitch; Supplier 1: Digi-Key; Supplier Part Number 1: TPD2E001DRYRG4-ND; Supplier 2: Newark; Supplier Part Number 2: 53M3998; Supplier 3: Mouser; Supplier Part Number 3: 595-TPD2E001DRYRG4; Eco-Plan: Green (RoHS & no Sb/Br); Mounting Technology: Surface Mount; ComponentLink1Description: Datasheet; ComponentLink1URL: http://www.ti.com/general/docs/lit/getliterature.tsp?genericPartNumber=TPD2E001&fileType=pdf; ComponentLink2Description: URL Link1; ComponentLink2URL: SamplesURL:http://www.ti.com/product/tpd2e001#samples
footprint DRY6 (PSON, 6-Leads, Body 1x1.45mm, Pitch 0.5mm, TI Recommended)
pins: 1 VCC (power) "Power-supply input. Bypass VCC to GND with a 0.1-uF ceramic capacitor.", 2 NC "No connection. Not internally connected.", 3 IO1 "ESD-protected channel", 4 GND (power) "Ground", 5 NC "No connection. Not internally connected.", 6 IO2 "ESD-protected channel"

## TPD2E001IDRLRQ1
designator U?
Automotive Catalog Low-Capacitance + / - 15 kV ESD-Protection Array for High-Speed Data Inter, 2 Channels, -40 to +85 degC, 5-pin SOT (DRL), Green (RoHS & no Sb/Br); Manufacturer: Texas Instruments; PartNumber: TPD2E001IDRLRQ1; Breakdown Voltage(Min)(V): 11; IEC 61000-4-2 Air-Gap(+/- kV): 15; IEC 61000-4-2 Contact(+/- kV): 8; IO Capacitance(Typ)(pF): 1.5; IO Leakage Current(nA): 1; SubFamily: ESD Solution; USB High Speed: TRUE; DatasheetVersion: SLLS993; PackageVersion: revD, Aug-2007; PackageReference: DRL5; PackageDescription: 5-Pin Plastic Small Outline, Flat Lead 0.5 mm Pitch; Supplier 1: Digi-Key; Supplier Part Number 1: 296-29985-2-ND; Supplier 2: Digi-Key; Supplier Part Number 2: 296-29985-1-ND; Supplier 3: Digi-Key; Supplier Part Number 3: 296-29985-6-ND; Supplier 4: Newark; Supplier Part Number 4: 55R7553; Supplier 5: Mouser; Supplier Part Number 5: 595-TPD2E001IDRLRQ1; Eco-Plan: Green (RoHS & no Sb/Br); Mounting Technology: Surface Mount; ComponentLink1Description: Datasheet; ComponentLink1URL: http://www.ti.com/general/docs/lit/getliterature.tsp?genericPartNumber=TPD2E001-Q1&fileType=pdf; ComponentLink2Description: URL Link1; ComponentLink2URL: SamplesURL:http://www.ti.com/product/tpd2e001-q1#samples
footprint DRL5_V (SOTFL, 5-Flat Leads, Body 1.2x1.6x0.6mm, Pitch 0.5mm, TI Recommended)
footprint DRL5_N (SOTFL, 5-Flat Leads, Body 1.2x1.6x0.6mm, Pitch 0.5mm, IPC Medium Density)
footprint DRL5_L (SOTFL, 5-Flat Leads, Body 1.2x1.6x0.6mm, Pitch 0.5mm, IPC High Density)
footprint DRL5_M (SOTFL, 5-Flat Leads, Body 1.2x1.6x0.6mm, Pitch 0.5mm, IPC Low Density)
pins: 1 VCC (power) "Power-supply input. Bypass VCC to GND with a 0.1-uF ceramic capacitor.", 2 NC "No connection. Not internally connected.", 3 IO1 "ESD-protected channel", 4 GND (power) "Ground", 5 IO2 "ESD-protected channel"

## TPD2E007DCKR
designator U?
ESD Protection Array for AC Signal Data Interface, 2 Channels, -40 to +85 degC, 3-pin SC70 (DCK), Green (RoHS & no Sb/Br); Manufacturer: Texas Instruments; PartNumber: TPD2E007DCKR; Breakdown Voltage(Min)(V): +/-14; IEC 61000-4-2 Air-Gap(+/- kV): 15; IEC 61000-4-2 Contact(+/- kV): 8; IO Leakage Current(nA): 50; SubFamily: ESD Solution; DatasheetVersion: SLVS796E; PackageVersion: revG, Jan-2007; PackageReference: DCK3; PackageDescription: 3-Pin Plastic Small-Outline Package, 0.65 mm Pitch, 2.1 mm Lead Span; Supplier 1: Digi-Key; Supplier Part Number 1: 296-25281-2-ND; Supplier 2: Digi-Key; Supplier Part Number 2: 296-25281-1-ND; Supplier 3: Digi-Key; Supplier Part Number 3: 296-25281-6-ND; Supplier 4: Farnell; Supplier Part Number 4: 2120465; Supplier 5: Newark; Supplier Part Number 5: 94T5089; Supplier 6: Newark; Supplier Part Number 6: 55R7554; Supplier 7: Mouser; Supplier Part Number 7: 595-TPD2E007DCKR; Eco-Plan: Green (RoHS & no Sb/Br); IO Capacitance(Typ)(pF): 15; Mounting Technology: Surface Mount; ComponentLink1Description: Datasheet; ComponentLink1URL: http://www.ti.com/general/docs/lit/getliterature.tsp?genericPartNumber=TPD2E007&fileType=pdf; ComponentLink2Description: URL Link1; ComponentLink2URL: SamplesURL:http://www.ti.com/product/tpd2e007#samples
footprint DCK3_N (SOT23, 3-Leads, Body 2.0x1.25mm, Pitch 0.65mm, Lead Span 2.1mm, IPC Medium Density)
footprint DCK3_L (SOT23, 3-Leads, Body 2.0x1.25mm, Pitch 0.65mm, Lead Span 2.1mm, IPC High Density)
footprint DCK3_M (SOT23, 3-Leads, Body 2.0x1.25mm, Pitch 0.65mm, Lead Span 2.1mm, IPC Low Density)
pins: 1 IO1, 2 IO2, 3 GND (power)

## TPD2E009DBZR
designator U?
ESD Protection Array for High-Speed Data Interfaces, 2 Channels, -40 to +85 degC, 3-pin SOT-23 (DBZ), Green (RoHS & no Sb/Br); Manufacturer: Texas Instruments; PartNumber: TPD2E009DBZR; Breakdown Voltage(Min)(V): 9; Differential Capacitance(pF): 0.01; IEC 61000-4-2 Air-Gap(+/- kV): 8; IO Capacitance(Typ)(pF): 0.7; IO Leakage Current(nA): 10; Serial ATA / eSATA: TRUE; SubFamily: ESD Solution; DatasheetVersion: SLVS953A; PackageVersion: revB, Apr-2005; PackageReference: DBZ3; PackageDescription: 3-Pin Plastic Small-Outline Package, 0.95 mm Pitch, 2.4 mm Lead Span; Supplier 1: Digi-Key; Supplier Part Number 1: 296-24657-2-ND; Supplier 2: Digi-Key; Supplier Part Number 2: 296-24657-1-ND; Supplier 3: Digi-Key; Supplier Part Number 3: 296-24657-6-ND; Supplier 4: Farnell; Supplier Part Number 4: 1755715RL; Supplier 5: Farnell; Supplier Part Number 5: 1755715; Supplier 6: Newark; Supplier Part Number 6: 14R9549; Supplier 7: Mouser; Supplier Part Number 7: 595-TPD2E009DBZR; Eco-Plan: Green (RoHS & no Sb/Br); IEC 61000-4-2 Contact(+/- kV): 8; Mounting Technology: Surface Mount; Code_JEDEC: TO-236-AB; ComponentLink1Description: Datasheet; ComponentLink1URL: http://www.ti.com/general/docs/lit/getliterature.tsp?genericPartNumber=TPD2E009&fileType=pdf; ComponentLink2Description: URL Link1; ComponentLink2URL: SamplesURL:http://www.ti.com/product/tpd2e009#samples
footprint DBZ3_N (SOT23, 3-Leads, Body 2.9x1.3mm, Pitch 0.95mm, Lead Span 2.4mm, IPC Medium Density)
footprint DBZ3_L (SOT23, 3-Leads, Body 2.9x1.3mm, Pitch 0.95mm, Lead Span 2.4mm, IPC High Density)
footprint DBZ3_M (SOT23, 3-Leads, Body 2.9x1.3mm, Pitch 0.95mm, Lead Span 2.4mm, IPC Low Density)
pins: 1 D+ "High-speed ESD clamp, provides ESD protection to the high-speed differential data lines", 2 D- "High-speed ESD clamp, provides ESD protection to the high-speed differential data lines", 3 GND (power) "Ground"

## TPD2E009DRTR
designator U?
ESD Protection Array for High-Speed Data Interfaces, 2 Channels, -40 to +85 degC, 3-pin SOT (DRT), Green (RoHS & no Sb/Br); Manufacturer: Texas Instruments; PartNumber: TPD2E009DRTR; Breakdown Voltage(Min)(V): 9; Differential Capacitance(pF): 0.01; IEC 61000-4-2 Air-Gap(+/- kV): 8; IO Capacitance(Typ)(pF): 0.7; IO Leakage Current(nA): 10; Serial ATA / eSATA: TRUE; SubFamily: ESD Solution; DatasheetVersion: SLVS953A; PackageVersion: revD, Jun-2008; PackageReference: DRT3; PackageDescription: 3-Flat Lead Plastic Small Outline, 1 x 1 mm (inc leads), 0.35 mm Pitch; Supplier 1: Digi-Key; Supplier Part Number 1: 296-25410-2-ND; Supplier 2: Digi-Key; Supplier Part Number 2: 296-25410-1-ND; Supplier 3: Digi-Key; Supplier Part Number 3: 296-25410-6-ND; Supplier 4: Newark; Supplier Part Number 4: 50R8093; Supplier 5: Mouser; Supplier Part Number 5: 595-TPD2E009DRTR; Eco-Plan: Green (RoHS & no Sb/Br); IEC 61000-4-2 Contact(+/- kV): 8; Mounting Technology: Surface Mount; ComponentLink1Description: Datasheet; ComponentLink1URL: http://www.ti.com/general/docs/lit/getliterature.tsp?genericPartNumber=TPD2E009&fileType=pdf; ComponentLink2Description: URL Link1; ComponentLink2URL: SamplesURL:http://www.ti.com/product/tpd2e009#samples
footprint DRT3 (SOTFL, 3-Leads, Body 1x1mm (inc leads), Pitch 0.35mm)
pins: 1 D+ "High-speed ESD clamp, provides ESD protection to the high-speed differential data lines", 2 D- "High-speed ESD clamp, provides ESD protection to the high-speed differential data lines", 3 GND (power) "Ground"

## TPD2E009DRYR
designator U?
ESD Protection Array for High-Speed Data Interfaces, 2 Channels, -40 to +85 degC, 6-pin SON (DRY); Manufacturer: Texas Instruments; PartNumber: TPD2E009DRYR; Breakdown Voltage(Min)(V): 9; Differential Capacitance(pF): 0.01; Eco-Plan: Green (RoHS & no Sb/Br); IEC 61000-4-2 Air-Gap(+/- kV): 8; IO Capacitance(Typ)(pF): 0.7; IO Leakage Current(nA): 10; Serial ATA / eSATA: TRUE; SubFamily: ESD Solution; DatasheetVersion: SLVS953A; PackageVersion: revF, Dec-2011; PackageReference: DRY6; PackageDescription: 6-Pin Plastic Small Outline No-Lead, 1 x 1.45 x 0.6 mm Body, 0.5 mm Pitch; Supplier 1: Mouser; Supplier Part Number 1: N/A; IEC 61000-4-2 Contact(+/- kV): 8; Mounting Technology: Surface Mount; ComponentLink1Description: Datasheet; ComponentLink1URL: http://www.ti.com/general/docs/lit/getliterature.tsp?genericPartNumber=TPD2E009&fileType=pdf; ComponentLink2Description: URL Link1; ComponentLink2URL: SamplesURL:http://www.ti.com/product/tpd2e009#samples
footprint DRY6 (PSON, 6-Leads, Body 1x1.45mm, Pitch 0.5mm, TI Recommended)
pins: 1 NC, 2 GND (power) "Ground", 3 NC, 4 D- "High-speed ESD clamp, provides ESD protection to the high-speed differential data lines", 5 VCC (power) "Power supply", 6 D+ "High-speed ESD clamp, provides ESD protection to the high-speed differential data lines"

## TPD2EUSB30ADRTR
designator U?
ESD / Surge Solution for High Speed, Low Voltage Interface, 2 Channels, -40 to +85 degC, 3-pin SOT (DRT), Green (RoHS & no Sb/Br); Manufacturer: Texas Instruments; PartNumber: TPD2EUSB30ADRTR; 1394 / Firewire: TRUE; Breakdown Voltage(Min)(V): 4.5; Differential Capacitance(pF): 0.05; IEC 61000-4-2 Air-Gap(+/- kV): 8; IO Capacitance(Typ)(pF): 0.7; IO Leakage Current(nA): 10; SubFamily: ESD Solution; DatasheetVersion: SLVSAC2C; PackageVersion: revD, Jun-2008; PackageReference: DRT3; PackageDescription: 3-Flat Lead Plastic Small Outline, 1 x 1 mm (inc leads), 0.35 mm Pitch; Supplier 1: Digi-Key; Supplier Part Number 1: 296-28153-2-ND; Supplier 2: Digi-Key; Supplier Part Number 2: 296-28153-1-ND; Supplier 3: Digi-Key; Supplier Part Number 3: 296-28153-6-ND; Supplier 4: Farnell; Supplier Part Number 4: 1869645; Supplier 5: Newark; Supplier Part Number 5: 27T6835; Supplier 6: Mouser; Supplier Part Number 6: 595-TPD2EUSB30ADRTR; Eco-Plan: Green (RoHS & no Sb/Br); HDMI: TRUE; IEC 61000-4-2 Contact(+/- kV): 8; Serial ATA / eSATA: TRUE; USB Full Speed: TRUE; USB High Speed: TRUE; USB Super Speed: TRUE; Mounting Technology: Surface Mount; ComponentLink1Description: Datasheet; ComponentLink1URL: http://www.ti.com/general/docs/lit/getliterature.tsp?genericPartNumber=TPD2EUSB30A&fileType=pdf; ComponentLink2Description: URL Link1; ComponentLink2URL: SamplesURL:http://www.ti.com/product/tpd2eusb30a#samples
footprint DRT3 (SOTFL, 3-Leads, Body 1x1mm (inc leads), Pitch 0.35mm)
pins: 1 D+ "High-speed ESD clamp, provides ESD protection to the high-speed differential data line", 2 D- "High-speed ESD clamp, provides ESD protection to the high-speed differential data line", 3 GND (power) "Ground"

## TPD2EUSB30DRTR
designator U?
ESD Solution for Super-Speed (6 Gbps) USB 3.0 Interface, 2 Channels, -40 to +85 degC, 3-pin SOT (DRT), Green (Rohs & No Sb/Br); Manufacturer: Texas Instruments; PartNumber: TPD2EUSB30DRTR; 1394 / Firewire: TRUE; Breakdown Voltage(Min)(V): 9; Differential Capacitance(pF): 0.01; IEC 61000-4-2 Air-Gap(+/- kV): 8; IO Capacitance(Typ)(pF): 0.7; IO Leakage Current(nA): 10; DatasheetVersion: SLVSAC2C; PackageVersion: revD, Jun-2008; PackageReference: DRT3; PackageDescription: 3-Flat Lead Plastic Small Outline, 1 x 1 mm (inc leads), 0.35 mm Pitch; Supplier 1: Digi-Key; Supplier Part Number 1: 296-25509-2-ND; Supplier 2: Digi-Key; Supplier Part Number 2: 296-25509-1-ND; Supplier 3: Digi-Key; Supplier Part Number 3: 296-25509-6-ND; Supplier 4: Farnell; Supplier Part Number 4: 2114062; Supplier 5: Newark; Supplier Part Number 5: 64R0730; Supplier 6: Mouser; Supplier Part Number 6: 595-TPD2EUSB30DRTR; Eco-Plan: Green (RoHS & no Sb/Br); HDMI: TRUE; IEC 61000-4-2 Contact(+/- kV): 8; Serial ATA / eSATA: TRUE; SubFamily: ESD Solution; USB Full Speed: TRUE; USB High Speed: TRUE; USB Super Speed: TRUE; Mounting Technology: Surface Mount; ComponentLink1Description: Datasheet; ComponentLink1URL: http://www.ti.com/general/docs/lit/getliterature.tsp?genericPartNumber=TPD2EUSB30&fileType=pdf; ComponentLink2Description: URL Link1; ComponentLink2URL: SamplesURL:http://www.ti.com/product/tpd2eusb30#samples
footprint DRT3 (SOTFL, 3-Leads, Body 1x1mm (inc leads), Pitch 0.35mm)
pins: 1 D+ "High-speed ESD clamp, provides ESD protection to the high-speed differential data line.", 2 D- "High-speed ESD clamp, provides ESD protection to the high-speed differential data line.", 3 GND (power) "Ground"